# Altium schematic symbol library Connects.SchLib: 75 symbols
Pins are listed as number, name and electrical type; pins without a type are passive.

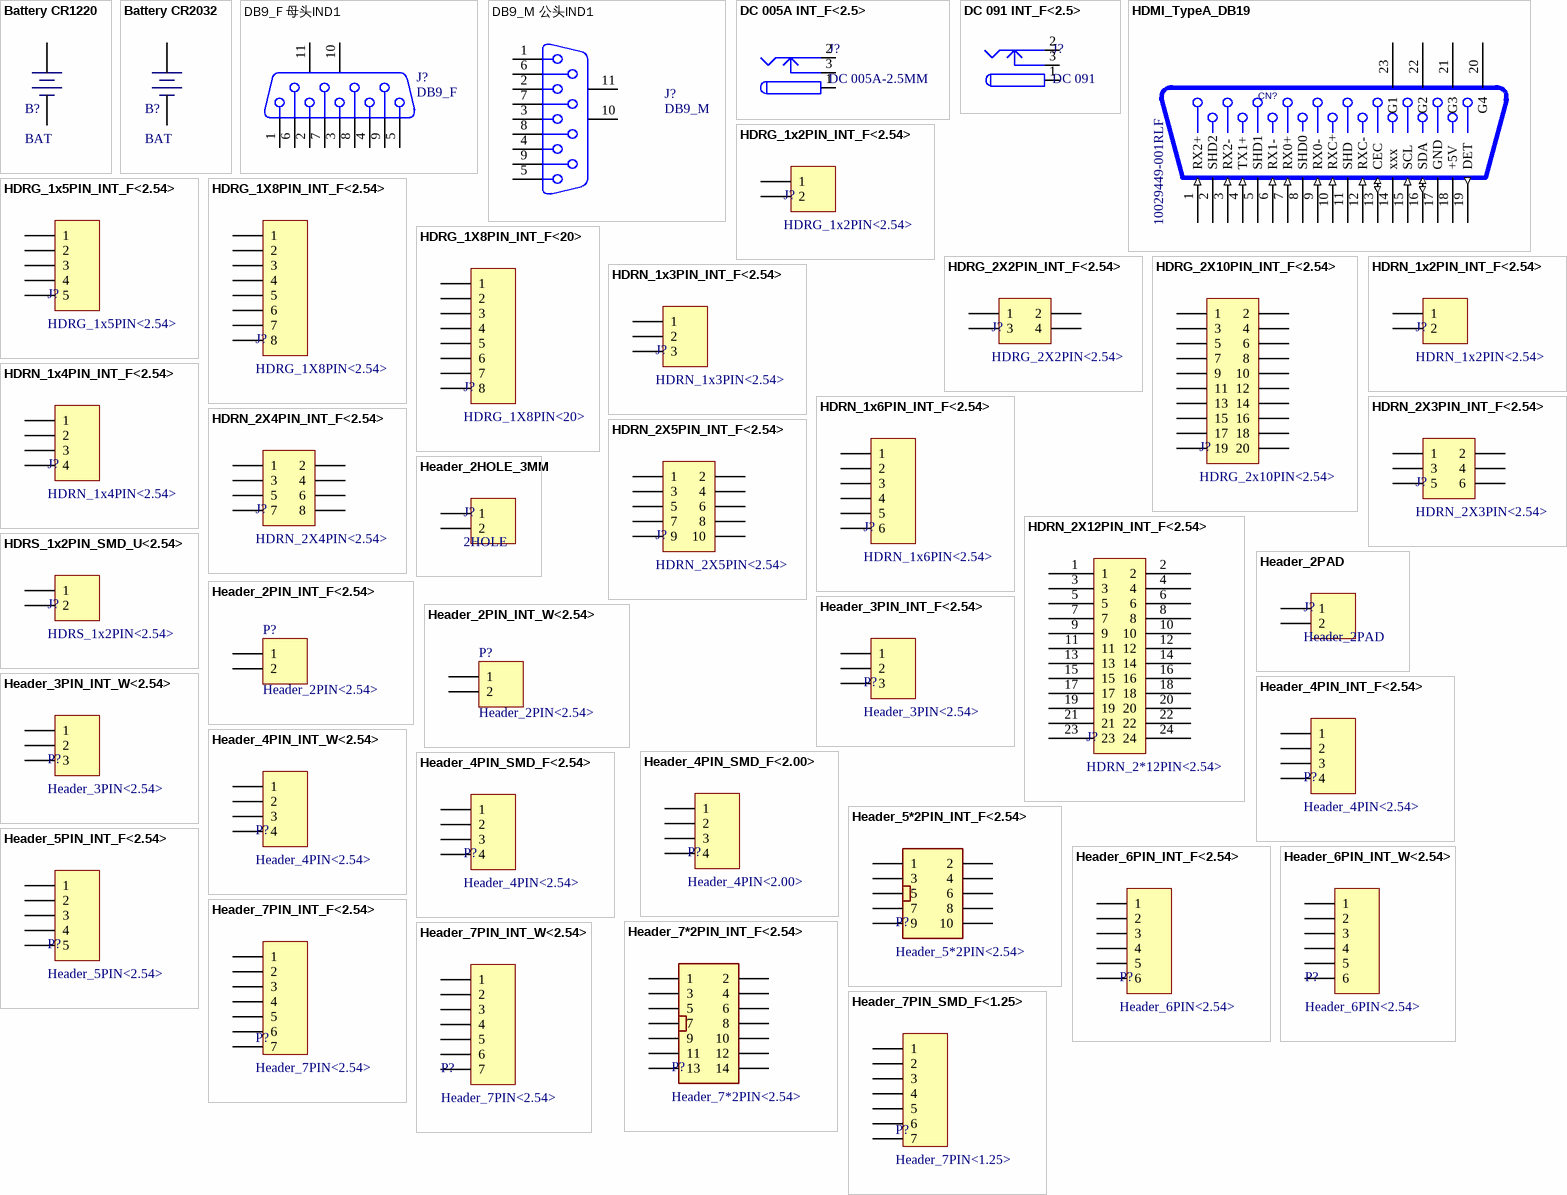
[diagram p0: symbols Battery CR1220 to Header_7PIN_SMD_F<1.25>]

## Battery CR1220
designator B?, comment BAT
电池座
footprint CR1220
pins: 1, 2

## Battery CR2032
designator B?, comment BAT
电池座
footprint CR2032 (CR2032电池座（未加焊）)
pins: 1, 2

## DB9_F 母头IND1
designator J?, comment DB9_F
9针连接器母头; PackageDocument: O; Positions: 9; Gender: Receptacle; Published: 15-Jun-2001; LatestRevisionDate: 17-Jul-2002; LatestRevisionNote: Re-released for DXP Platform.; DatasheetDocument: 1-Sep-1999; PackageReference: 788750; Publisher: Altium Limited; Orientation: Right Angle
footprint DP_F 9P_1
pins: 1, 2, 3, 4, 5, 6, 7, 8, 9, 10 MH1, 11 MH2

## DB9_M 公头IND1
designator J?, comment DB9_M
9针连接器公头; PackageDocument: O; Positions: 9; Gender: Receptacle; Published: 15-Jun-2001; LatestRevisionDate: 17-Jul-2002; LatestRevisionNote: Re-released for DXP Platform.; DatasheetDocument: 1-Sep-1999; PackageReference: 788750; Publisher: Altium Limited; Orientation: Right Angle; ComponentLink1Description: 立创商城链接; ComponentLink1URL: https://item.szlcsc.com/142694.html
footprint DP_M 9P_1 (Straight D-SUB 9 Male Contacts Connector with Harpoons and Female Screwlock (UNC4-40))
pins: 1, 2, 3, 4, 5, 6, 7, 8, 9, 10 MH1, 11 MH2

## DC 005A INT_F<2.5>
designator J?, comment DC 005A-2.5MM
DC电源接头
footprint DC-005A
pins: 1 (power), 2 (power), 3 (power)

## DC 091 INT_F<2.5>
designator J?, comment DC 091
DC电源接口
footprint DC-091
pins: 1 (power), 2 (power), 3 (power)

## HDMI_TypeA_DB19
designator CN?  value 10029449-001RLF
HDMI Receptacle Type A 19pins standard Connector; Internal_Part_Number: MCD-00307; Manufacturer: FCI; Provided_By: SUBCO; Initial_Board_Reference: MB1272; Manufacturer_Part_Number: 10029449-001RLF; ComponentLink1Description: Datasheet; ComponentLink1URL: http://tunmcdsvn.tun.st.com/Component_Datasheet_Library/Trunk/Connectors/AMPHENOL_FCI _HDMI_10029449-001RLF; ECCN_US: n/a; ECCN_EU: n/a; Status: Checked; Part_Type: Connector
footprint HDMI FCI AMPHENOL
pins: 1 RX2+ (in), 2 SHD2, 3 RX2- (in), 4 TX1+ (in), 5 SHD1, 6 RX1- (in), 7 RX0+ (in), 8 SHD0, 9 RX0- (in), 10 RXC+ (in), 11 SHD, 12 RXC- (in), 13 CEC (io), 14 xxx, 15 SCL (in), 16 SDA (io), 17 GND, 18 +5V (power), 19 DET (out), 20 G4, 21 G3, 22 G2, 23 G1

## HDRG_1x2PIN_INT_F<2.54>
designator J?, comment HDRG_1x2PIN<2.54>
单排插针
footprint 1X2PIN_G<2.54>
pins: 1, 2

## HDRG_1x5PIN_INT_F<2.54>
designator J?, comment HDRG_1x5PIN<2.54>
单排插针
footprint 1x5Pin-G<2.54>
pins: 1, 2, 3, 4, 5

## HDRG_1X8PIN_INT_F<2.54>
designator J?, comment HDRG_1X8PIN<2.54>
单排插针
footprint 1x8PIN_G<2.54> (Connector; Header; 8 Position)
pins: 1, 2, 3, 4, 5, 6, 7, 8

## HDRG_1X8PIN_INT_F<20>
designator J?, comment HDRG_1X8PIN<20>
光立方插针
footprint guanglifang
pins: 1, 2, 3, 4, 5, 6, 7, 8

## HDRG_2X2PIN_INT_F<2.54>
designator J?, comment HDRG_2X2PIN<2.54>
双排插针
footprint 2x2PIN_G<2.54>
pins: 1, 2, 3, 4

## HDRG_2X10PIN_INT_F<2.54>
designator J?, comment HDRG_2x10PIN<2.54>
双排插针
footprint 2X10PIN_G<2.54>
pins: 1, 2, 3, 4, 5, 6, 7, 8, 9, 10, 11, 12, 13, 14, 15, 16, 17, 18, 19, 20

## HDRN_1x2PIN_INT_F<2.54>
designator J?, comment HDRN_1x2PIN<2.54>
单排插针
footprint 1X2PIN_N<2.54> (两针跳线（未加焊）)
pins: 1, 2

## HDRN_1x3PIN_INT_F<2.54>
designator J?, comment HDRN_1x3PIN<2.54>
单排插针
footprint 1x3PIN_N<2.54>
pins: 1, 2, 3

## HDRN_1x4PIN_INT_F<2.54>
designator J?, comment HDRN_1x4PIN<2.54>
单排插针
footprint 1x4Pin_N<2.54>
pins: 1, 2, 3, 4

## HDRN_1x6PIN_INT_F<2.54>
designator J?, comment HDRN_1x6PIN<2.54>
单排插针
footprint 1x6PIN_N<2.54>
pins: 1, 2, 3, 4, 5, 6

## HDRN_2X3PIN_INT_F<2.54>
designator J?, comment HDRN_2X3PIN<2.54>
双排插针
footprint 2X3PIN_N<2.54>
pins: 1, 2, 3, 4, 5, 6

## HDRN_2X4PIN_INT_F<2.54>
designator J?, comment HDRN_2X4PIN<2.54>
双排插针
footprint 2X4PIN_N<2.54>
pins: 1, 2, 3, 4, 5, 6, 7, 8

## HDRN_2X5PIN_INT_F<2.54>
designator J?, comment HDRN_2X5PIN<2.54>
双排插针
footprint 2X5PIN_N<2.54>
pins: 1, 2, 3, 4, 5, 6, 7, 8, 9, 10

## HDRN_2X12PIN_INT_F<2.54>
designator J?, comment HDRN_2*12PIN<2.54>
双排插针
footprint 2X12PIN_N<2.54> (牛角座)
pins: 1, 2, 3, 4, 5, 6, 7, 8, 9, 10, 11, 12, 13, 14, 15, 16, 17, 18, 19, 20, 21, 22, 23, 24

## HDRS_1x2PIN_SMD_U<2.54>
designator J?, comment HDRS_1x2PIN<2.54>
单排插针
footprint HDRS_1X2PIN_SMD
pins: 1, 2

## Header_2HOLE_3MM
designator J?, comment 2HOLE
footprint 2HOLE_3MM
pins: 1, 2

## Header_2PAD
designator J?
footprint POD
pins: 1, 2

## Header_2PIN_INT_F<2.54>
designator P?, comment Header_2PIN<2.54>
插接件; LatestRevisionDate: 17-Jul-2002; LatestRevisionNote: Re-released for DXP Platform.; Publisher: Altium Limited
footprint CONNECT_SIPA02<2.54>
pins: 1, 2

## Header_2PIN_INT_W<2.54>
designator P?, comment Header_2PIN<2.54>
插接件; LatestRevisionDate: 17-Jul-2002; LatestRevisionNote: Re-released for DXP Platform.; Publisher: Altium Limited
footprint CONNECT_SIPW02<2.54> (四针白色插座（未加焊）)
pins: 1, 2

## Header_3PIN_INT_F<2.54>
designator P?, comment Header_3PIN<2.54>
插接件
footprint CONNECT_SIPA03<2.54> (三针白色插座（未加焊）)
pins: 1, 2, 3

## Header_3PIN_INT_W<2.54>
designator P?, comment Header_3PIN<2.54>
插接件
footprint CONNECT_SIPW03<2.54> (四针白色插座（未加焊）)
pins: 1, 2, 3

## Header_4PIN_INT_F<2.54>
designator P?, comment Header_4PIN<2.54>
插接件
footprint CONNECT_SIPA04<2.54> (四针白色插座（未加焊）)
pins: 1, 2, 3, 4

## Header_4PIN_INT_W<2.54>
designator P?, comment Header_4PIN<2.54>
插接件
footprint CONNECT_SIPW04<2.54> (四针白色插座（未加焊）)
pins: 1, 2, 3, 4

## Header_4PIN_SMD_F<2.00>
designator P?, comment Header_4PIN<2.00>
插接件
footprint CONNECT_SMT04<2.00>
pins: 1, 2, 3, 4

## Header_4PIN_SMD_F<2.54>
designator P?, comment Header_4PIN<2.54>
插接件
footprint CONNECT_SMT04<2.54>
pins: 1, 2, 3, 4

## Header_5*2PIN_INT_F<2.54>
designator P?, comment Header_5*2PIN<2.54>
牛角连接器
footprint CONNECT_SIPA05*2<2.54> (牛角座)
pins: 1, 2, 3, 4, 5, 6, 7, 8, 9, 10

## Header_5PIN_INT_F<2.54>
designator P?, comment Header_5PIN<2.54>
插接件
footprint CONNECT_SIPA05<2.54> (五针白色插座（未加焊）)
pins: 1, 2, 3, 4, 5

## Header_6PIN_INT_F<2.54>
designator P?, comment Header_6PIN<2.54>
插接件
footprint CONNECT_SIPA06<2.54>
pins: 1, 2, 3, 4, 5, 6

## Header_6PIN_INT_W<2.54>
designator P?, comment Header_6PIN<2.54>
插接件
footprint CONNECT_SIPW06<2.54> (四针白色插座（未加焊）)
pins: 1, 2, 3, 4, 5, 6

## Header_7*2PIN_INT_F<2.54>
designator P?, comment Header_7*2PIN<2.54>
牛角连接器
footprint CONNECT_SIPA07*2<2.54> (msp430调试接口（未加焊）)
pins: 1, 2, 3, 4, 5, 6, 7, 8, 9, 10, 11, 12, 13, 14

## Header_7PIN_INT_F<2.54>
designator P?, comment Header_7PIN<2.54>
插接件
footprint CONNECT_SIPA07<2.54>
pins: 1, 2, 3, 4, 5, 6, 7

## Header_7PIN_INT_W<2.54>
designator P?, comment Header_7PIN<2.54>
插接件
footprint CONNECT_SIPW07<2.54> (四针白色插座（未加焊）)
pins: 1, 2, 3, 4, 5, 6, 7

## Header_7PIN_SMD_F<1.25>
designator P?, comment Header_7PIN<1.25>
插接件
footprint CONNECT_SMT07<1.25>
pins: 1, 2, 3, 4, 5, 6, 7

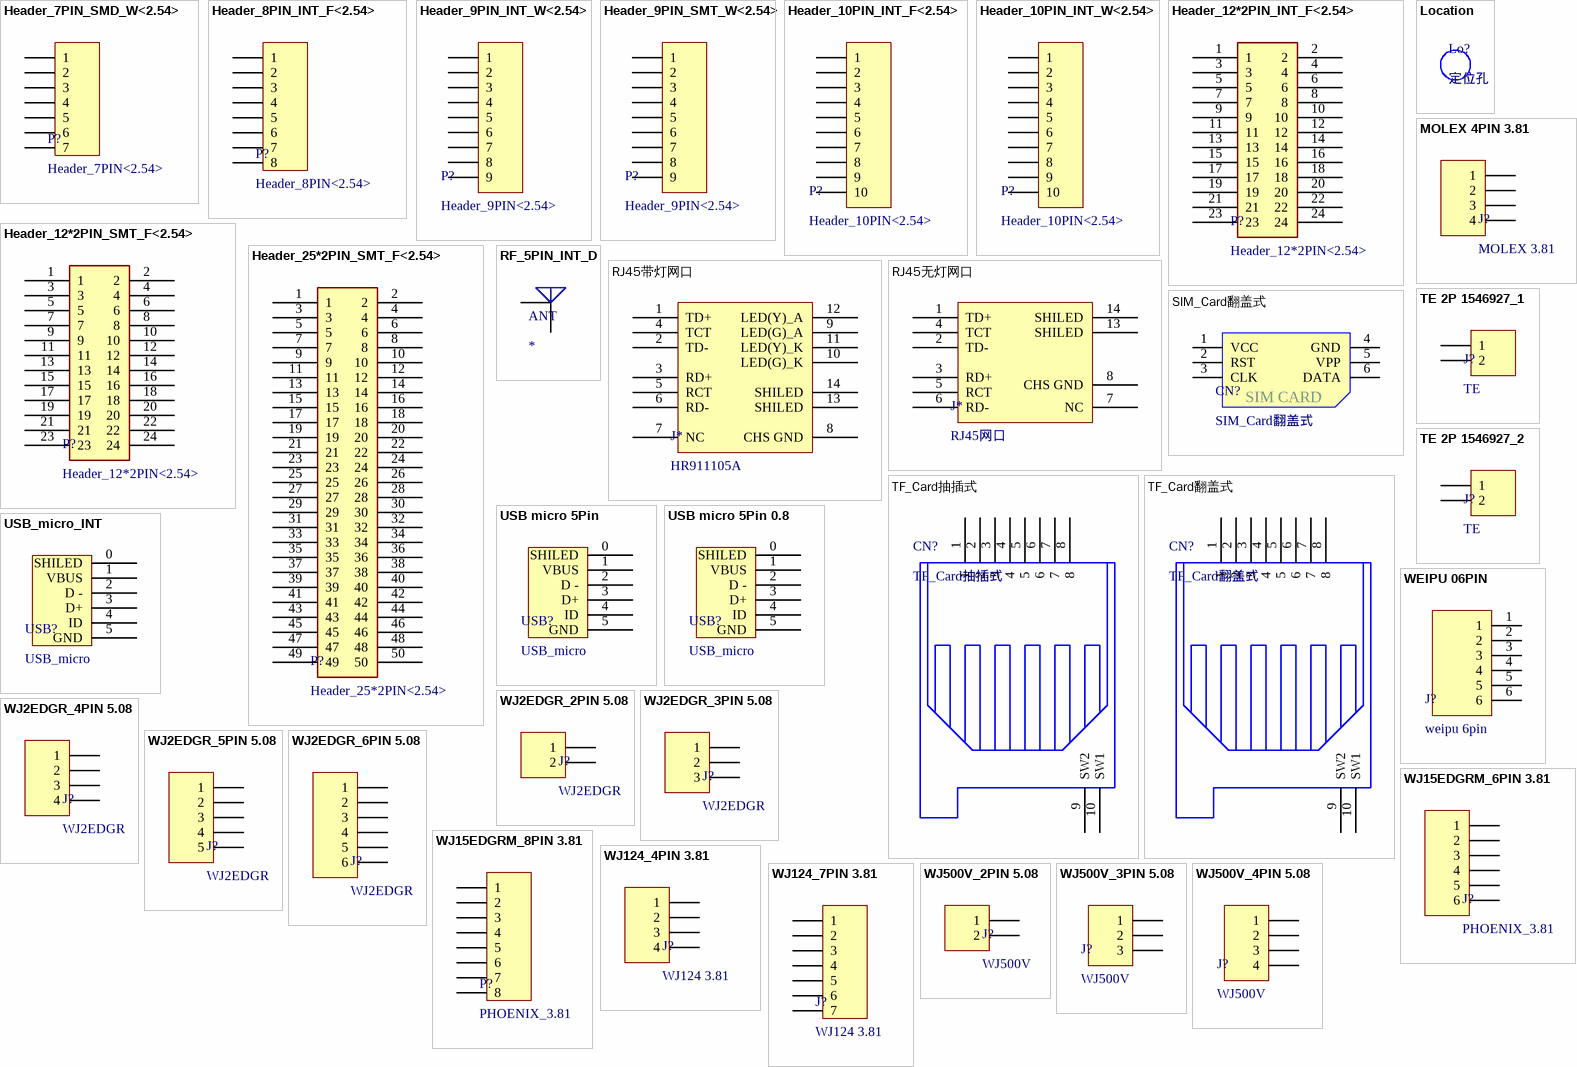
[diagram p1: symbols Header_7PIN_SMD_W<2.54> to WJ500V_4PIN 5.08]

## Header_7PIN_SMD_W<2.54>
designator P?, comment Header_7PIN<2.54>
插接件
footprint CONNECT_SMTW07<2.54> (四针白色插座（未加焊）)
pins: 1, 2, 3, 4, 5, 6, 7

## Header_8PIN_INT_F<2.54>
designator P?, comment Header_8PIN<2.54>
插接件
footprint CONNECT_SIPA08<2.54>
pins: 1, 2, 3, 4, 5, 6, 7, 8

## Header_9PIN_INT_W<2.54>
designator P?, comment Header_9PIN<2.54>
插接件
footprint CONNECT_SIPW09<2.54>
pins: 1, 2, 3, 4, 5, 6, 7, 8, 9

## Header_9PIN_SMT_W<2.54>
designator P?, comment Header_9PIN<2.54>
插接件
footprint CONNECT_SMTW09<2.54>
pins: 1, 2, 3, 4, 5, 6, 7, 8, 9

## Header_10PIN_INT_F<2.54>
designator P?, comment Header_10PIN<2.54>
插接件
footprint CONNECT_SIPA10<2.54>
pins: 1, 2, 3, 4, 5, 6, 7, 8, 9, 10

## Header_10PIN_INT_W<2.54>
designator P?, comment Header_10PIN<2.54>
插接件
footprint CONNECT_SIPW10<2.54>
pins: 1, 2, 3, 4, 5, 6, 7, 8, 9, 10

## Header_12*2PIN_INT_F<2.54>
designator P?, comment Header_12*2PIN<2.54>
排针连接器
footprint CONNECT_SIPA12*2<2.54> (排针母座)
pins: 1, 2, 3, 4, 5, 6, 7, 8, 9, 10, 11, 12, 13, 14, 15, 16, 17, 18, 19, 20, 21, 22, 23, 24

## Header_12*2PIN_SMT_F<2.54>
designator P?, comment Header_12*2PIN<2.54>
排针连接器
footprint CONNECT_SMTA12*2<2.54> (牛角座)
pins: 1, 2, 3, 4, 5, 6, 7, 8, 9, 10, 11, 12, 13, 14, 15, 16, 17, 18, 19, 20, 21, 22, 23, 24

## Header_25*2PIN_SMT_F<2.54>
designator P?, comment Header_25*2PIN<2.54>
排针连接器
footprint CONNECT_SMTA25*2<2.54> (牛角座)
pins: 1, 2, 3, 4, 5, 6, 7, 8, 9, 10, 11, 12, 13, 14, 15, 16, 17, 18, 19, 20, 21, 22, 23, 24, 25, 26, 27, 28, 29, 30, 31, 32, 33, 34, 35, 36, 37, 38, 39, 40, 41, 42, 43, 44, 45, 46, 47, 48, 49, 50

## Location
designator Lo?, comment 定位孔
footprint location3mm
pins: 0

## MOLEX 4PIN 3.81
designator J?, comment MOLEX 3.81
MOLEX连接器
footprint MOLEX_26-60-5040 (3.96mm (.156") Pitch KK?Solid Header,Right Angle, 4 Circuits, Tin (Sn) Plating)
pins: 1, 2, 3, 4

## RF_5PIN_INT_D
designator ANT
SMA射频头
footprint SMA_FR_D
pins: 1, 2

## RJ45带灯网口
designator J*, comment HR911105A
网口
footprint HR911105A (网口)
pins: 1 TD+, 2 TD-, 3 RD+, 4 TCT, 5 RCT, 6 RD-, 7 NC, 8 CHS GND, 9 LED(G)_A, 10 LED(G)_K, 11 LED(Y)_K, 12 LED(Y)_A, 13 SHILED, 14 SHILED

## RJ45无灯网口
designator J*, comment RJ45网口
网口
footprint RJ45
footprint RJ45 (RJ45无灯网口)
pins: 1 TD+, 2 TD-, 3 RD+, 4 TCT, 5 RCT, 6 RD-, 7 NC, 8 CHS GND, 13 SHILED, 14 SHILED

## SIM_Card翻盖式
designator CN?
SIM卡槽翻盖式
footprint SIM_Card 翻盖式
pins: 1 VCC, 2 RST, 3 CLK, 4 GND, 5 VPP, 6 DATA
text: SIM CARD

## TE 2P 1546927_1
designator J?, comment TE
TE连接器
footprint TE 2P 1546927_1
pins: 1, 2

## TE 2P 1546927_2
designator J?, comment TE
TE连接器
footprint TE 2P 1546927_2
pins: 1, 2

## TF_Card抽插式
designator CN?
TF卡槽 抽插式
footprint TF_CARD 抽插式
pins: 1, 2, 3, 4, 5, 6, 7, 8, 9 SW2, 10 SW1

## TF_Card翻盖式
designator CN?
TF卡槽 翻盖式
footprint TF_Card 翻盖式
pins: 1, 2, 3, 4, 5, 6, 7, 8, 9 SW2, 10 SW1

## USB micro 5Pin
designator USB?, comment USB_micro
MICRO USB接口
footprint USB MICRO 5Pin
pins: 0 SHILED, 1 VBUS, 2 D -, 3 D+, 4 ID, 5 GND

## USB micro 5Pin 0.8
designator USB?, comment USB_micro
MICRO USB接口
footprint USB MICRO 5Pin_chen_0.8
pins: 0 SHILED, 1 VBUS, 2 D -, 3 D+, 4 ID, 5 GND

## USB_micro_INT
designator USB?, comment USB_micro
直插MICRO USB接口
footprint microusb_int
pins: 0 SHILED, 1 VBUS, 2 D -, 3 D+, 4 ID, 5 GND

## WEIPU 06PIN
designator J?, comment weipu 6pin
航空插头
footprint WEIPU_6PIN
pins: 1, 2, 3, 4, 5, 6

## WJ2EDGR_2PIN 5.08
designator J?, comment WJ2EDGR
2EDG连接器
footprint WJ2EDGR5.08 2P
pins: 1, 2

## WJ2EDGR_3PIN 5.08
designator J?, comment WJ2EDGR
2EDG连接器
footprint WJ2EDGR5.08 3P
pins: 1, 2, 3

## WJ2EDGR_4PIN 5.08
designator J?, comment WJ2EDGR
2EDG连接器
footprint WJ2EDGR5.08 4P
pins: 1, 2, 3, 4

## WJ2EDGR_5PIN 5.08
designator J?, comment WJ2EDGR
2EDG连接器
footprint WJ2EDGR5.08 5P
pins: 1, 2, 3, 4, 5

## WJ2EDGR_6PIN 5.08
designator J?, comment WJ2EDGR
2EDG连接器
footprint WJ2EDGR5.08 6P
pins: 1, 2, 3, 4, 5, 6

## WJ15EDGRM_6PIN 3.81
designator J?, comment PHOENIX_3.81
15EDG连接器
footprint WJ15EDGRM3.61 6P
pins: 1, 2, 3, 4, 5, 6

## WJ15EDGRM_8PIN 3.81
designator P?, comment PHOENIX_3.81
15EDG连接器
footprint WJ15EDGRM3.61 8P
pins: 1, 2, 3, 4, 5, 6, 7, 8

## WJ124_4PIN 3.81
designator J?, comment WJ124 3.81
WJ124连接器
footprint WJ124_3.81 4P (PCB Terminal Block, Pitch 3.81mm, 4 Positions, Screw Connection)
pins: 1, 2, 3, 4

## WJ124_7PIN 3.81
designator J?, comment WJ124 3.81
WJ124连接器
footprint WJ124_3.81 7P (PCB Terminal Block, Pitch 3.81mm, 7 Positions, Screw Connection)
pins: 1, 2, 3, 4, 5, 6, 7

## WJ500V_2PIN 5.08
designator J?, comment WJ500V
WJ500V连接器
footprint WJ500V5.08 2P (Terminal Block, 17.5A 400V, Pitch 5.08mm, 2 Positions, Screw Connection)
pins: 1, 2

## WJ500V_3PIN 5.08
designator J?, comment WJ500V
WJ500V连接器
footprint WJ500V5.08 3P (Terminal Block, 17.5A 400V, Pitch 5.08mm, 3 Positions, Screw Connection)
pins: 1, 2, 3

## WJ500V_4PIN 5.08
designator J?, comment WJ500V
WJ500V连接器
footprint WJ500V5.08 4P (Terminal Block, 17.5A 400V, Pitch 5.08mm, 4 Positions, Screw Connection)
pins: 1, 2, 3, 4